# Altium schematic symbol library ADuM3211.Schlib: 1 symbol
Pins are listed as number, name and electrical type; pins without a type are passive.

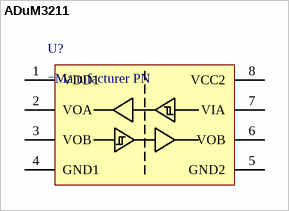
[diagram p0: symbol ADuM3211]

## ADuM3211
designator U?
Digital Isolator, Dual-Channel
pins: 1 VDD1, 2 VOA, 3 VOB, 4 GND1, 5 GND2, 6 VOB, 7 VIA, 8 VCC2